# EAGLE library part MCP3424 (library ArdDisp)
AD converter 4ch 12-18bit, int VREF 2.048V+/-0.05%, 1uA Standby, PGA 1x 2x 4x or 8x, Common imp 25M, diferencial imp 2,25M/PGA, samp cap 3.2pF, 240SPS(12bit) 3.75SPS(18bit)
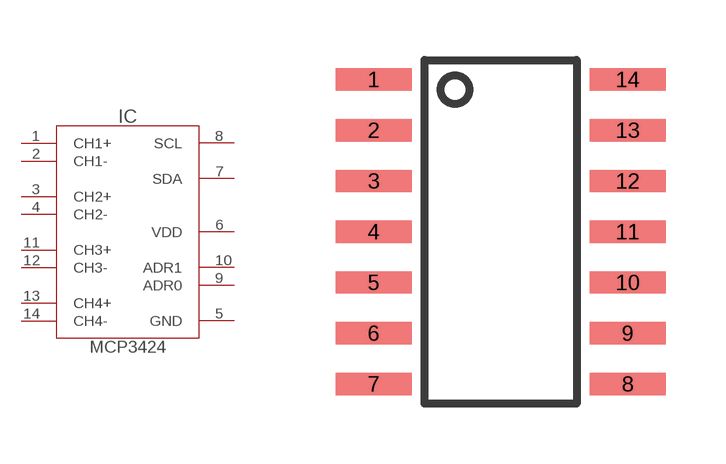
[diagram p26: symbol with the pads of SO14; footprint SO14]

Designator prefix IC

## MCP3424-E/ST  [SO14]
1  CH1+
2  CH1-
3  CH2+
4  CH2-
5  GND  in
6  VDD  in
7  SDA  in
8  SCL  in
9  ADR0
10  ADR1
11  CH3+
12  CH3-
13  CH4+
14  CH4-

## Footprint SO14 (pad centres in mm)
Pady jsou v mil/12.5 rozmery nejsou overeny se skutecnosti
smd 1.905 x 0.559: 1 -3.175,3.81; 2 -3.175,2.54; 3 -3.175,1.27; 4 -3.175,0; 5 -3.175,-1.27; 6 -3.175,-2.54; 7 -3.175,-3.81; 8 3.175,-3.81; 9 3.175,-2.54; 10 3.175,-1.27; 11 3.175,0; 12 3.175,1.27; 13 3.175,2.54; 14 3.175,3.81